# EAGLE library part JST-SH-6 (library TPS_PROJECT)
connector,multipole PCB use,SM06B-SRSS-T JST SH Series, 1mm Pitch 6 Way 1 Row Right Angle PCB Header, Solder Termination, 1A Source: Datasheet <http://uk.rs-online.com/web/p/products/5468827>
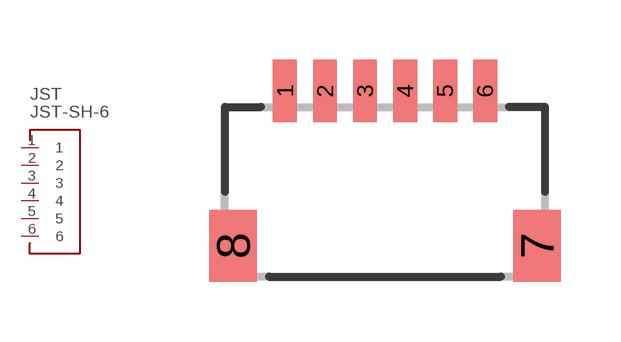
[diagram p4: symbol with the pads of JST-SH-6; footprint JST-SH-6]

Designator prefix JST

## JST-SH-6 (DESCRIPTION: connector,multipole PCB use,SM06B-SRSS-T JST SH Series, 1mm Pitch 6 Way 1 Row Right Angle PCB Header, Solder Termination, 1A; HEIGHT: mm; MANUFACTURER_NAME: JST (JAPAN SOLDERLESS TERMINALS); MANUFACTURER_PART_NUMBER: SM06B-SRSS-TB (LF)(SN); RS_PART_NUMBER: 5468827)  [JST-SH-6]
1  1
2  2
3  3
4  4
5  5
6  6

## Footprint JST-SH-6 (pad centres in mm)
SM06B-SRSS-TB
smd 0.6 x 1.55: 1 -2.5,0.4; 2 -1.5,0.4; 3 -0.5,0.4; 4 0.5,0.4; 5 1.5,0.4; 6 2.5,0.4
smd 1.2 x 1.8: 7 3.8,-3.475; 8 -3.8,-3.475